# EAGLE library part LEDBARGRAPH (library mentor2)
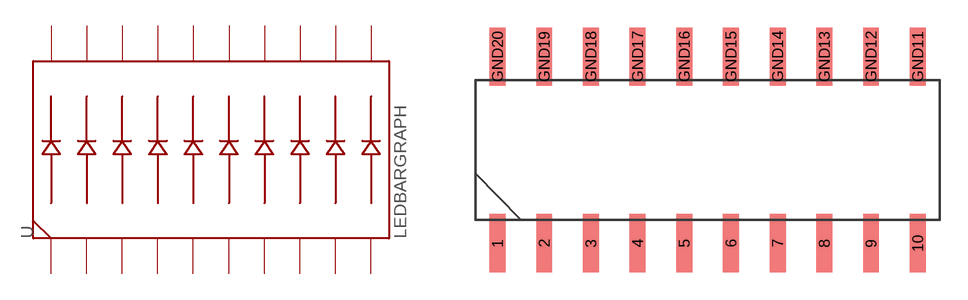
[diagram p10: symbol with the pads of DIL20; footprint DIL20]

Designator prefix -

## LEDBARGRAPH  [DIL20]
1  1
2  2
3  3
4  4
5  5
6  6
7  7
8  8
9  9
10  10
GND11  11
GND12  12
GND13  13
GND14  14
GND15  15
GND16  16
GND17  17
GND18  18
GND19  19
GND20  20

## Footprint DIL20 (pad centres in mm)
smd 0.864 x 3.175: 1 -11.43,-5.08; 2 -8.89,-5.08; 3 -6.35,-5.08; 4 -3.81,-5.08; 5 -1.27,-5.08; 6 1.27,-5.08; 7 3.81,-5.08; 8 6.35,-5.08; 9 8.89,-5.08; 10 11.43,-5.08; GND11 11.43,5.08; GND12 8.89,5.08; GND13 6.35,5.08; GND14 3.81,5.08; GND15 1.27,5.08; GND16 -1.27,5.08; GND17 -3.81,5.08; GND18 -6.35,5.08; GND19 -8.89,5.08; GND20 -11.43,5.08